# EAGLE library part BOB_TM4C123_LQP100 (library CEDT_JANUARY_2015_v6)
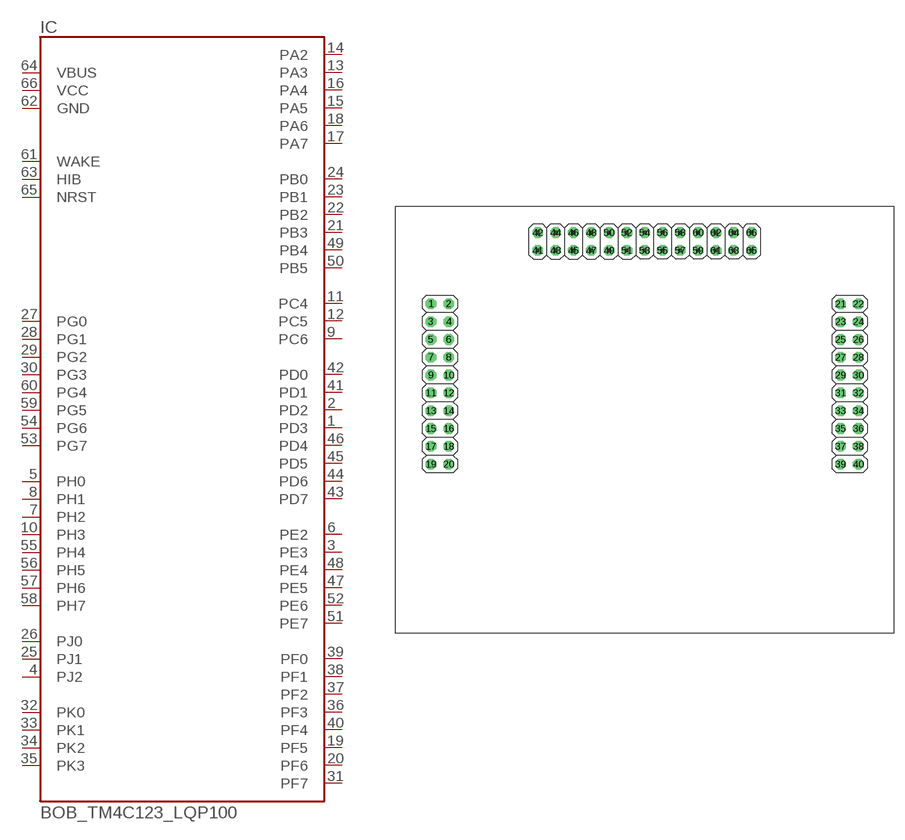
[diagram p78: symbol with the pads of BOB_TM4C123_LQFP100; footprint BOB_TM4C123_LQFP100]

Designator prefix IC

## BOB_TM4C123_LQP100  [BOB_TM4C123_LQFP100]
1  PD3
2  PD2
3  PE3  pas
4  PJ2  pas
5  PH0  pas
6  PE2  pas
7  PH2  pas
8  PH1  pas
9  PC6  pas
10  PH3  pas
11  PC4  pas
12  PC5  pas
13  PA3  pas
14  PA2  pas
15  PA5  pas
16  PA4  pas
17  PA7  pas
18  PA6  pas
19  PF5  pas
20  PF6  pas
21  PB3  pas
22  PB2  pas
23  PB1  pas
24  PB0  pas
25  PJ1  pas
26  PJ0  pas
27  PG0  pas
28  PG1  pas
29  PG2  pas
30  PG3  pas
31  PF7  pas
32  PK0  pas
33  PK1  pas
34  PK2  pas
35  PK3  pas
36  PF3  pas
37  PF2  pas
38  PF1  pas
39  PF0  pas
40  PF4  pas
41  PD1
42  PD0
43  PD7  pas
44  PD6  pas
45  PD5  pas
46  PD4  pas
47  PE5  pas
48  PE4  pas
49  PB4  pas
50  PB5  pas
51  PE7  pas
52  PE6  pas
53  PG7  pas
54  PG6  pas
55  PH4  pas
56  PH5  pas
57  PH6  pas
58  PH7  pas
59  PG5  pas
60  PG4  pas
61  WAKE  pas
62  GND  pas
63  HIB  pas
64  VBUS  pas
65  NRST  pas
66  VCC  pas

## Footprint BOB_TM4C123_LQFP100 (pad centres in mm)
drill 1.016 octagon: 1 5.08,46.99; 2 7.62,46.99; 3 5.08,44.45; 4 7.62,44.45; 5 5.08,41.91; 6 7.62,41.91; 7 5.08,39.37; 8 7.62,39.37; 9 5.08,36.83; 10 7.62,36.83; 11 5.08,34.29; 12 7.62,34.29; 13 5.08,31.75; 14 7.62,31.75; 15 5.08,29.21; 16 7.62,29.21; 17 5.08,26.67; 18 7.62,26.67; 19 5.08,24.13; 20 7.62,24.13; 21 63.5,46.99; 22 66.04,46.99; 23 63.5,44.45; 24 66.04,44.45; 25 63.5,41.91; 26 66.04,41.91; 27 63.5,39.37; 28 66.04,39.37; 29 63.5,36.83; 30 66.04,36.83; 31 63.5,34.29; 32 66.04,34.29; 33 63.5,31.75; 34 66.04,31.75; 35 63.5,29.21; 36 66.04,29.21; 37 63.5,26.67; 38 66.04,26.67; 39 63.5,24.13; 40 66.04,24.13; 41 20.32,54.61; 42 20.32,57.15; 43 22.86,54.61; 44 22.86,57.15; 45 25.4,54.61; 46 25.4,57.15; 47 27.94,54.61; 48 27.94,57.15; 49 30.48,54.61; 50 30.48,57.15; 51 33.02,54.61; 52 33.02,57.15; 53 35.56,54.61; 54 35.56,57.15; 55 38.1,54.61; 56 38.1,57.15; 57 40.64,54.61; 58 40.64,57.15; 59 43.18,54.61; 60 43.18,57.15; 61 45.72,54.61; 62 45.72,57.15; 63 48.26,54.61; 64 48.26,57.15; 65 50.8,54.61; 66 50.8,57.15